# EAGLE library part 5504F1-09S-02A-03 (library con-multicomp)
D-Sub 9pts, Righ-angle, solder
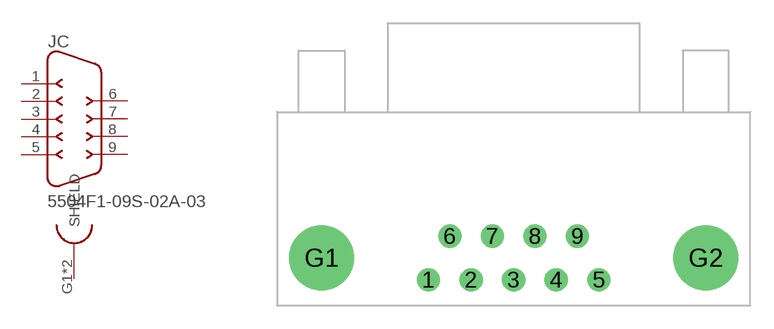
[diagram p0: symbol with the pads of 5504F1-09S-02A; footprint 5504F1-09S-02A]

Designator prefix J; gates C=SUB-D9 S=SHIELD

## 5504F1-09S-02A-03  [5504F1-09S-02A]
1  C:1  pas
2  C:2  pas
3  C:3  pas
4  C:4  pas
5  C:5  pas
6  C:6  pas
7  C:7  pas
8  C:8  pas
9  C:9  pas
G1  S:SHIELD
G2  S:SHIELD

## Footprint 5504F1-09S-02A (pad centres in mm)
drill 1: 1 -5.54,-1.42; 2 -2.77,-1.42; 3 0,-1.42; 4 2.77,-1.42; 5 5.54,-1.42; 6 -4.155,1.42; 7 -1.385,1.42; 8 1.385,1.42; 9 4.155,1.42
drill 3.2: G1 -12.495,0; G2 12.495,0